# Altium footprint library 430fr5949.PcbLib: 3 footprints
Each footprint in its own frame and in the unit in brackets; x right, y up, seen from the top. Pads: shape width x height; smd on the part's side, far side on the other; paste and mask are expansions set on the pad; w line width, h text height; cw(c..) or ccw(c..) is an arc to the next point about the centre after c.
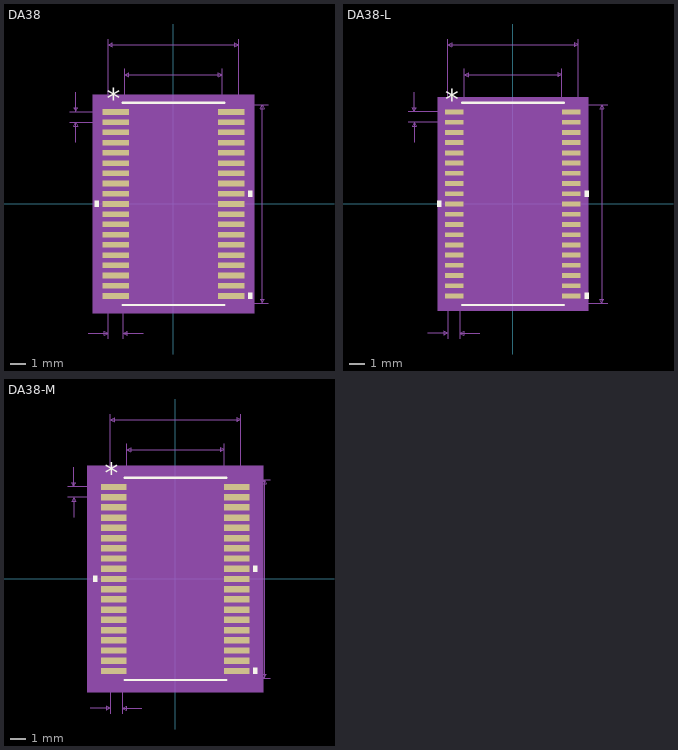
[diagram p0: the footprints below, top view; thin cyan lines are the x and y axes]

## DA38 [mil]
pads (38):
  rect 66x14 smd: 1(-144.5,230.31) 2(-144.5,204.72) 3(-144.5,179.13) 4(-144.5,153.54) 5(-144.5,127.95) 6(-144.5,102.36) 7(-144.5,76.77) 8(-144.5,51.18) 9(-144.5,25.59) 10(-144.5,0) 11(-144.5,-25.59) 12(-144.5,-51.18) 13(-144.5,-76.77) 14(-144.5,-102.36) 15(-144.5,-127.95) 16(-144.5,-153.54) 17(-144.5,-179.13) 18(-144.5,-204.72) 19(-144.5,-230.31) 20(144.5,-230.31) 21(144.5,-204.72) 22(144.5,-179.13) 23(144.5,-153.54) 24(144.5,-127.95) 25(144.5,-102.36) 26(144.5,-76.77) 27(144.5,-51.18) 28(144.5,-25.59) 29(144.5,0) 30(144.5,25.59) 31(144.5,51.18) 32(144.5,76.77) 33(144.5,102.36) 34(144.5,127.95) 35(144.5,153.54) 36(144.5,179.13) 37(144.5,204.72) 38(144.5,230.31)
Top Overlay:
  region: -187.5,7.5 -197.5,7.5 -197.5,-7.5 -187.5,-7.5
  region: 187.5,-222.81 197.5,-222.81 197.5,-237.81 187.5,-237.81
  region: 187.5,33.09 197.5,33.09 197.5,18.09 187.5,18.09
  lines w6: -127,-253 127,-253 ; -127,253 127,253
  text "*" at -167,239.31 h50
Mechanical 5:
  region: 202.5,-273 -202.5,-273 -202.5,273 202.5,273
Mechanical 7:
  lines w1: -259.5,204.72 -144.5,204.72 ; -259.5,230.31 -144.5,230.31 ; -244.5,154.72 -244.5,204.72 ; -244.5,280.31 -244.5,230.31 ; -213.5,-323 -163.5,-323 ; -163.5,-338 -163.5,0 -163.5,413 ; -125.5,-338 -125.5,0 ; -122,0 -122,338 ; -75.5,-323 -125.5,-323 ; 0,-248 237,-248 ; 0,248 237,248 ; 122,0 122,338 ; 163.5,0 163.5,413 ; -244.5,204.72 -249.5,194.72 -239.5,194.72 -244.5,204.72 ; -244.5,230.31 -249.5,240.31 -239.5,240.31 -244.5,230.31 ; -163.5,-323 -173.5,-318 -173.5,-328 -163.5,-323 ; -163.5,398 163.5,398 ; -163.5,398 -153.5,403 -153.5,393 -163.5,398 ; -125.5,-323 -115.5,-318 -115.5,-328 -125.5,-323 ; -122,323 122,323 ; -122,323 -112,328 -112,318 -122,323 ; 122,323 112,328 112,318 122,323 ; 163.5,398 153.5,403 153.5,393 163.5,398 ; 222,-248 222,248 ; 222,-248 217,-238 227,-238 222,-248 ; 222,248 217,238 227,238 222,248
  text "Default Padstyle: RX66Y14D0T" at -350,-448 h50
  text "Pin One Padstyle: RX66Y14D0T" at -350,-508 h50
  text "Alt 1 Padstyle: OX60Y90D30P" at -337.5,-688 h50
  text "Alt 2 Padstyle: OX90Y60D30P" at -337.5,-748 h50
  text "0.244in/6.198mm" at -93.75,343 h25
  text "0.327in/8.306mm" at -93.75,418 h25
  text "0.496in/12.598mm" at 242,-12.5 h25
  text "0.026in/0.65mm" at -439.5,205.02 h25
  text "0.03in/0.762mm" at -232,-368 h25
Mechanical 13:
  drawing of 157 lines, arcs and shapes, not listed
  text "*" at -119.5,195 h50
Mechanical 15:
  region: -132,-247.31 -187.5,-247.31 -187.5,247.31 -132,247.31 -132,258 132,258 132,247.31 187.5,247.31 187.5,-247.31 132,-247.31 132,-258 -132,-258
  lines w6: -187.5,-247.31 -187.5,247.31 -132,247.31 -132,258 132,258 132,247.31 187.5,247.31 187.5,-247.31 132,-247.31 132,-258 -132,-258 -132,-247.31 -187.5,-247.31
3D body: height 10, standoff 0, extent 0,0 10,10
3D body "DA38.step": height 47.09, standoff 0, extent -163.5,-247.99 163.51,248

## DA38-L [mil]
pads (38):
  rect 46x12 smd paste+0 mask+0: 1(-146.5,230.31) 2(-146.5,204.72) 3(-146.5,179.13) 4(-146.5,153.54) 5(-146.5,127.95) 6(-146.5,102.36) 7(-146.5,76.77) 8(-146.5,51.18) 9(-146.5,25.59) 10(-146.5,0) 11(-146.5,-25.59) 12(-146.5,-51.18) 13(-146.5,-76.77) 14(-146.5,-102.36) 15(-146.5,-127.95) 16(-146.5,-153.54) 17(-146.5,-179.13) 18(-146.5,-204.72) 19(-146.5,-230.31) 20(146.5,-230.31) 21(146.5,-204.72) 22(146.5,-179.13) 23(146.5,-153.54) 24(146.5,-127.95) 25(146.5,-102.36) 26(146.5,-76.77) 27(146.5,-51.18) 28(146.5,-25.59) 29(146.5,0) 30(146.5,25.59) 31(146.5,51.18) 32(146.5,76.77) 33(146.5,102.36) 34(146.5,127.95) 35(146.5,153.54) 36(146.5,179.13) 37(146.5,204.72) 38(146.5,230.31)
Top Overlay:
  region: -179.5,7.5 -189.5,7.5 -189.5,-7.5 -179.5,-7.5
  region: 179.5,-222.81 189.5,-222.81 189.5,-237.81 179.5,-237.81
  region: 179.5,33.09 189.5,33.09 189.5,18.09 179.5,18.09
  lines w6: -127,-253 127,-253 ; -127,253 127,253
  text "*" at -169,237.31 h50
Mechanical 5:
  region: 188.5,-267 -188.5,-267 -188.5,267 188.5,267
Mechanical 7:
  lines w1: -261.5,204.72 -146.5,204.72 ; -261.5,230.31 -146.5,230.31 ; -246.5,154.72 -246.5,204.72 ; -246.5,280.31 -246.5,230.31 ; -213.5,-323 -163.5,-323 ; -163.5,-338 -163.5,0 -163.5,413 ; -133.5,-338 -133.5,0 ; -122,0 -122,338 ; -83.5,-323 -133.5,-323 ; 0,-248 237,-248 ; 0,248 237,248 ; 122,0 122,338 ; 163.5,0 163.5,413 ; -246.5,204.72 -251.5,194.72 -241.5,194.72 -246.5,204.72 ; -246.5,230.31 -251.5,240.31 -241.5,240.31 -246.5,230.31 ; -163.5,-323 -173.5,-318 -173.5,-328 -163.5,-323 ; -163.5,398 163.5,398 ; -163.5,398 -153.5,403 -153.5,393 -163.5,398 ; -133.5,-323 -123.5,-318 -123.5,-328 -133.5,-323 ; -122,323 122,323 ; -122,323 -112,328 -112,318 -122,323 ; 122,323 112,328 112,318 122,323 ; 163.5,398 153.5,403 153.5,393 163.5,398 ; 222,-248 222,248 ; 222,-248 217,-238 227,-238 222,-248 ; 222,248 217,238 227,238 222,248
  text "Default Padstyle: RX46Y12D0T" at -350,-448 h50
  text "Pin One Padstyle: RX46Y12D0T" at -350,-508 h50
  text "Alt 1 Padstyle: OX60Y90D30P" at -337.5,-688 h50
  text "Alt 2 Padstyle: OX90Y60D30P" at -337.5,-748 h50
  text "0.244in/6.198mm" at -93.75,343 h25
  text "0.327in/8.306mm" at -93.75,418 h25
  text "0.496in/12.598mm" at 242,-12.5 h25
  text "0.026in/0.65mm" at -441.5,205.02 h25
  text "0.03in/0.762mm" at -236,-368 h25
Mechanical 13:
  drawing of 157 lines, arcs and shapes, not listed
  text "*" at -119.5,195 h50
Mechanical 15:
  region: -126,-240.31 -173.5,-240.31 -173.5,240.31 -126,240.31 -126,252 126,252 126,240.31 173.5,240.31 173.5,-240.31 126,-240.31 126,-252 -126,-252
  lines w6: -173.5,-240.31 -173.5,240.31 -126,240.31 -126,252 126,252 126,240.31 173.5,240.31 173.5,-240.31 126,-240.31 126,-252 -126,-252 -126,-240.31 -173.5,-240.31
3D body: height 10, standoff 0, extent 0,0 10,10

## DA38-M [mil]
pads (38):
  rect 63.5x16 smd paste+0 mask+0: 1(-153.75,230.31) 2(-153.75,204.72) 3(-153.75,179.13) 4(-153.75,153.54) 5(-153.75,127.95) 6(-153.75,102.36) 7(-153.75,76.77) 8(-153.75,51.18) 9(-153.75,25.59) 10(-153.75,0) 11(-153.75,-25.59) 12(-153.75,-51.18) 13(-153.75,-76.77) 14(-153.75,-102.36) 15(-153.75,-127.95) 16(-153.75,-153.54) 17(-153.75,-179.13) 18(-153.75,-204.72) 19(-153.75,-230.31) 20(153.75,-230.31) 21(153.75,-204.72) 22(153.75,-179.13) 23(153.75,-153.54) 24(153.75,-127.95) 25(153.75,-102.36) 26(153.75,-76.77) 27(153.75,-51.18) 28(153.75,-25.59) 29(153.75,0) 30(153.75,25.59) 31(153.75,51.18) 32(153.75,76.77) 33(153.75,102.36) 34(153.75,127.95) 35(153.75,153.54) 36(153.75,179.13) 37(153.75,204.72) 38(153.75,230.31)
Top Overlay:
  region: -195.5,7.5 -205.5,7.5 -205.5,-7.5 -195.5,-7.5
  region: 195.5,-222.81 205.5,-222.81 205.5,-237.81 195.5,-237.81
  region: 195.5,33.09 205.5,33.09 205.5,18.09 195.5,18.09
  lines w6: -127,-253 127,-253 ; -127,253 127,253
  text "*" at -176.25,241.31 h50
Mechanical 5:
  region: 220.5,-283 -220.5,-283 -220.5,283 220.5,283
Mechanical 7:
  lines w1: -268.75,204.72 -153.75,204.72 ; -268.75,230.31 -153.75,230.31 ; -253.75,154.72 -253.75,204.72 ; -253.75,280.31 -253.75,230.31 ; -213.5,-323 -163.5,-323 ; -163.5,-338 -163.5,0 -163.5,413 ; -133.5,-338 -133.5,0 ; -122,0 -122,338 ; -83.5,-323 -133.5,-323 ; 0,-248 237,-248 ; 0,248 237,248 ; 122,0 122,338 ; 163.5,0 163.5,413 ; -253.75,204.72 -258.75,194.72 -248.75,194.72 -253.75,204.72 ; -253.75,230.31 -258.75,240.31 -248.75,240.31 -253.75,230.31 ; -163.5,-323 -173.5,-318 -173.5,-328 -163.5,-323 ; -163.5,398 163.5,398 ; -163.5,398 -153.5,403 -153.5,393 -163.5,398 ; -133.5,-323 -123.5,-318 -123.5,-328 -133.5,-323 ; -122,323 122,323 ; -122,323 -112,328 -112,318 -122,323 ; 122,323 112,328 112,318 122,323 ; 163.5,398 153.5,403 153.5,393 163.5,398 ; 222,-248 222,248 ; 222,-248 217,-238 227,-238 222,-248 ; 222,248 217,238 227,238 222,248
  text "Default Padstyle: RX63p5Y16D0T" at -375,-448 h50
  text "Pin One Padstyle: RX63p5Y16D0T" at -375,-508 h50
  text "Alt 1 Padstyle: OX60Y90D30P" at -337.5,-688 h50
  text "Alt 2 Padstyle: OX90Y60D30P" at -337.5,-748 h50
  text "0.244in/6.198mm" at -93.75,343 h25
  text "0.327in/8.306mm" at -93.75,418 h25
  text "0.496in/12.598mm" at 242,-12.5 h25
  text "0.026in/0.65mm" at -448.75,205.02 h25
  text "0.03in/0.762mm" at -236,-368 h25
Mechanical 13:
  drawing of 157 lines, arcs and shapes, not listed
  text "*" at -119.5,195 h50
Mechanical 15:
  region: -142,-258.31 -205.5,-258.31 -205.5,258.31 -142,258.31 -142,268 142,268 142,258.31 205.5,258.31 205.5,-258.31 142,-258.31 142,-268 -142,-268
  lines w6: -205.5,-258.31 -205.5,258.31 -142,258.31 -142,268 142,268 142,258.31 205.5,258.31 205.5,-258.31 142,-258.31 142,-268 -142,-268 -142,-258.31 -205.5,-258.31
3D body: height 10, standoff 0, extent 0,0 10,10